# EAGLE library part PINHD-1X6 (library pinhead)
PIN HEADER
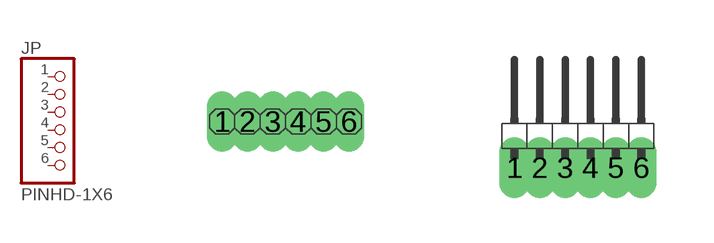
[diagram p0: symbol with the pads of 1X06; footprints 1X06, 1X06/90]

Designator prefix JP

## PINHD-1X6  [1X06]
1  1  pas
2  2  pas
3  3  pas
4  4  pas
5  5  pas
6  6  pas

## PINHD-1X6/90  [1X06/90]
Pads as for 1X06

## Footprint 1X06 (pad centres in mm)
PIN HEADER
drill 0.254 long: 1 -1.587,0; 2 -0.953,0; 3 -0.318,0; 4 0.318,0; 5 0.953,0; 6 1.587,0

## Footprint 1X06/90 (pad centres in mm)
PIN HEADER
drill 0.254 long: 1 -1.587,-0.953; 2 -0.953,-0.953; 3 -0.318,-0.953; 4 0.318,-0.953; 5 0.953,-0.953; 6 1.587,-0.953